# Altium footprint library LMZ1420XX.PcbLib: 1 footprints
Each footprint in its own frame and in the unit in brackets; x right, y up, seen from the top. Pads: shape width x height; smd on the part's side, far side on the other; paste and mask are expansions set on the pad; w line width, h text height; cw(c..) or ccw(c..) is an arc to the next point about the centre after c.
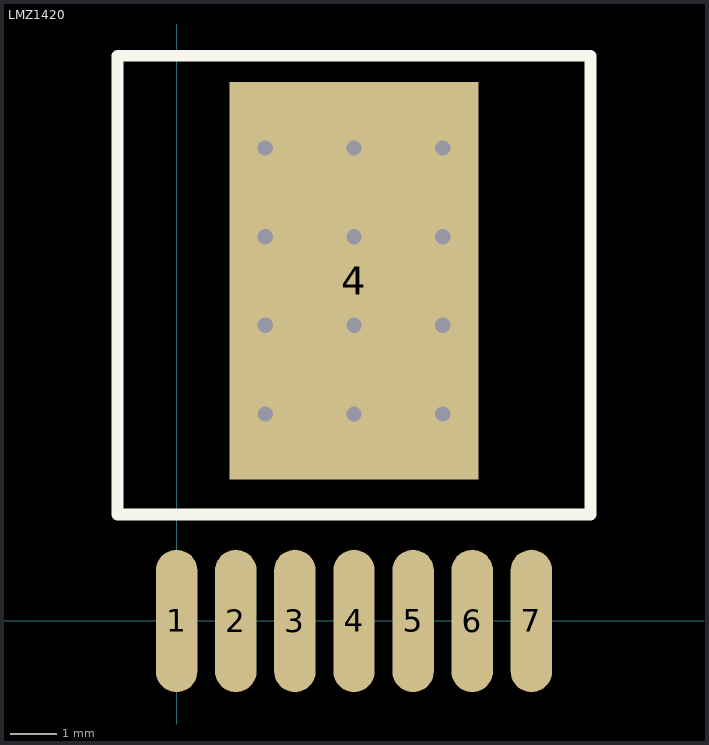
[diagram p0: the footprint, top view; thin cyan lines are the x and y axes]

## LMZ1420 [mm]
pads (8):
  oval 0.89x3.06 smd mask+0.1: 1(0,0) 2(1.27,0) 3(2.54,0) 4(3.81,0) 5(5.08,0) 6(6.35,0) 7(7.62,0)
  rect 5.35x8.54 smd mask+0.1: 4(3.81,7.305)
via 1.905,6.35 diameter 0.66 hole 0.33
via 5.715,4.445 diameter 0.66 hole 0.33
via 3.81,4.445 diameter 0.66 hole 0.33
via 1.905,4.445 diameter 0.66 hole 0.33
via 5.715,6.35 diameter 0.66 hole 0.33
via 3.81,6.35 diameter 0.66 hole 0.33
via 5.715,8.255 diameter 0.66 hole 0.33
via 3.81,8.255 diameter 0.66 hole 0.33
via 1.905,8.255 diameter 0.66 hole 0.33
via 5.715,10.16 diameter 0.66 hole 0.33
via 3.81,10.16 diameter 0.66 hole 0.33
via 1.905,10.16 diameter 0.66 hole 0.33
Top Overlay:
  lines w0.254: -1.27,2.286 -1.27,12.141 8.89,12.141 8.89,2.286 -1.27,2.286